# Altium integrated library Caps.IntLib: 151 symbols (part 3 of 3)
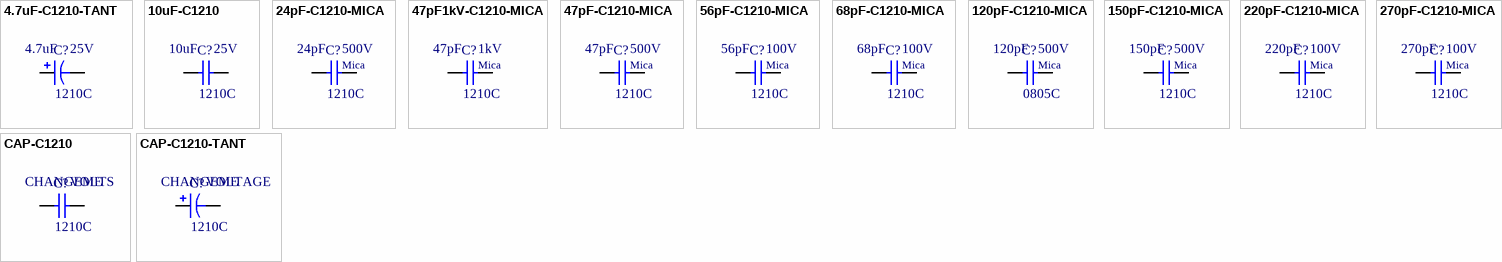
[diagram p9: symbols 4.7uF-C1210-TANT to CAP-C1210-TANT]

## 4.7uF-C1210-TANT
designator C?, comment value 4.7uF  PackageReference: 1210C  Voltage: 25V  (hidden comment: 4.7uF, 1210, 25V)
4.7uF, SMD Chip Capacitor, 1210 size, Tantalum, Polarized 25V; Published: 8-Jun-2000; LatestRevisionDate: 29-May-2009; LatestRevisionNote: IPC-7351 Footprint Added.; Publisher: Altium Limited; PackageDescription: Chip Capacitor; Supplier 1: Newark; Supplier 2: Digi-Key; Supplier 3: Mouser; Supplier Part Number 1: 60R5909; Supplier Part Number 2: 478-1690-1-ND; Supplier Part Number 3: 581-TAJB475K025R
footprint 1210-C-TANT (Molded Capacitor, 2-Leads, Body 3.50x2.85mm, IPC Low Density)
simulation model CAP (Capacitor)
signal-integrity model Cap Semi (Capacitor Signal Integrity Analisys)
3D model 1206Cap-Tant-A (PCB3D Model)
pins: 1, 2

## 10uF-C1210
designator C?, comment value 10uF  PackageReference: 1210C  Voltage: 25V  (hidden comment: 10uF, 1210, 25V)
10uF, SMD Chip Capacitor, 1210 size, Non Polarized, 25V; Published: 8-Jun-2000; LatestRevisionDate: 29-May-2009; LatestRevisionNote: IPC-7351 Footprint Added.; Publisher: Altium Limited; PackageDescription: Chip Capacitor; Supplier 1: Digi-Key; Supplier Part Number 1: 399-8224-1-ND; Supplier 2: Newark; Supplier Part Number 2: 29M4586; Supplier 3: Mouser; Supplier Part Number 3: 80-C1210C106K3R
footprint 1210-C (Chip Capacitor, Body 3.2x2.5mm, IPC High Density)
simulation model CAP (Capacitor)
signal-integrity model Cap Semi (Capacitor Signal Integrity Analisys)
3D model 1210Cap (PCB3D Model)
pins: 1, 2

## 24pF-C1210-MICA
designator C?, comment value 24pF  PackageReference: 1210C  Voltage: 500V  (hidden comment: 24pF, 1210, 500V)
24pF, SMD Chip Capacitor, 1210 size, Non Polarized, 500V, Mica; Published: 8-Jun-2000; LatestRevisionDate: 29-May-2009; LatestRevisionNote: IPC-7351 Footprint Added.; Publisher: Altium Limited; PackageDescription: Chip Capacitor; Supplier 1: Newark; Supplier 2: Mouser; Supplier 3: Digi-Key; Supplier 4: Arrow; Supplier Part Number 1: 66K2854; Supplier Part Number 2: 598-MC12ED240J-TF; Supplier Part Number 3: MC12ED240J-F-ND; Supplier Part Number 4: MC12ED240J-TF
footprint 1210-C (Chip Capacitor, Body 3.2x2.5mm, IPC High Density)
simulation model CAP (Capacitor)
signal-integrity model Cap Semi (Capacitor Signal Integrity Analisys)
3D model 1210Cap (PCB3D Model)
pins: 1, 2
text: Mica

## 47pF1kV-C1210-MICA
designator C?, comment value 47pF  PackageReference: 1210C  Voltage: 1kV  (hidden comment: 47pF, 1210, 1kV)
47pF, SMD Chip Capacitor, 1210 size, Non Polarized, 1kV; Published: 8-Jun-2000; LatestRevisionDate: 29-May-2009; LatestRevisionNote: IPC-7351 Footprint Added.; Publisher: Altium Limited; PackageDescription: Chip Capacitor; Supplier 1: Newark; Supplier 2: Mouser; Supplier 3: Digi-Key; Supplier 4: Arrow; Supplier Part Number 1: 66K3160; Supplier Part Number 2: 598-MC12FF470J-F; Supplier Part Number 3: MC12FF470J-F-ND; Supplier Part Number 4: MC12FF470J-F
footprint 1210-C (Chip Capacitor, Body 3.2x2.5mm, IPC High Density)
simulation model CAP (Capacitor)
signal-integrity model Cap Semi (Capacitor Signal Integrity Analisys)
3D model 1210Cap (PCB3D Model)
pins: 1, 2
text: Mica

## 47pF-C1210-MICA
designator C?, comment value 47pF  PackageReference: 1210C  Voltage: 500V  (hidden comment: 47pF, 1210, 500V)
47pF, SMD Chip Capacitor, 1210 size, Non Polarized, 500V, Mica; Published: 8-Jun-2000; LatestRevisionDate: 29-May-2009; LatestRevisionNote: IPC-7351 Footprint Added.; Publisher: Altium Limited; PackageDescription: Chip Capacitor; Supplier 1: Newark; Supplier 2: Digi-Key; Supplier 3: Mouser; Supplier 4: Arrow; Supplier Part Number 1: 66K3096; Supplier Part Number 2: 338-1118-ND; Supplier Part Number 3: 5982-12-500V47-F; Supplier Part Number 4: MC12FD470J-F
footprint 1210-C (Chip Capacitor, Body 3.2x2.5mm, IPC High Density)
simulation model CAP (Capacitor)
signal-integrity model Cap Semi (Capacitor Signal Integrity Analisys)
3D model 1210Cap (PCB3D Model)
pins: 1, 2
text: Mica

## 56pF-C1210-MICA
designator C?, comment value 56pF  PackageReference: 1210C  Voltage: 100V  (hidden comment: 56pF, 1210, 100V)
56pF, SMD Chip Capacitor, 1210 size, Non Polarized, 100V, Mica; Published: 8-Jun-2000; LatestRevisionDate: 29-May-2009; LatestRevisionNote: IPC-7351 Footprint Added.; Publisher: Altium Limited; PackageDescription: Chip Capacitor
footprint 1210-C (Chip Capacitor, Body 3.2x2.5mm, IPC High Density)
simulation model CAP (Capacitor)
signal-integrity model Cap Semi (Capacitor Signal Integrity Analisys)
3D model 1210Cap (PCB3D Model)
pins: 1, 2
text: Mica

## 68pF-C1210-MICA
designator C?, comment value 68pF  PackageReference: 1210C  Voltage: 100V  (hidden comment: 68pF, 1210, 100V)
68pF, SMD Chip Capacitor, 1210 size, Non Polarized, 100V, Mica; Published: 8-Jun-2000; LatestRevisionDate: 29-May-2009; LatestRevisionNote: IPC-7351 Footprint Added.; Publisher: Altium Limited; PackageDescription: Chip Capacitor; Supplier 1: Mouser; Supplier 2: Arrow; Supplier 3: Newark; Supplier 4: Digi-Key; Supplier Part Number 1: 598-MC12FA680J-F; Supplier Part Number 2: MC12FA680J-F; Supplier Part Number 3: 66K3018; Supplier Part Number 4: 338-1115-ND
footprint 1210-C (Chip Capacitor, Body 3.2x2.5mm, IPC High Density)
simulation model CAP (Capacitor)
signal-integrity model Cap Semi (Capacitor Signal Integrity Analisys)
3D model 1210Cap (PCB3D Model)
pins: 1, 2
text: Mica

## 120pF-C1210-MICA
designator C?, comment value 120pF  PackageReference: 0805C  Voltage: 500V  (hidden comment: 120pF, 1210, 500V)
120pF, SMD Chip Capacitor, 1210 size, Non Polarized, 500V, Mica; Published: 8-Jun-2000; LatestRevisionDate: 29-May-2009; LatestRevisionNote: IPC-7351 Footprint Added.; Publisher: Altium Limited; PackageDescription: Chip Capacitor; Supplier 1: Mouser; Supplier 2: Newark; Supplier 3: Digi-Key; Supplier Part Number 1: 598-MC12FD121J-TF; Supplier Part Number 2: 66K3055; Supplier Part Number 3: MC12FD121J-F-ND
footprint 1210-C (Chip Capacitor, Body 3.2x2.5mm, IPC High Density)
simulation model CAP (Capacitor)
signal-integrity model Cap Semi (Capacitor Signal Integrity Analisys)
3D model 1210Cap (PCB3D Model)
pins: 1, 2
text: Mica

## 150pF-C1210-MICA
designator C?, comment value 150pF  PackageReference: 1210C  Voltage: 500V  (hidden comment: 150pF, 1210, 500V)
150pF, SMD Chip Capacitor, 1210 size, Non Polarized, 500V, Mica; Published: 8-Jun-2000; LatestRevisionDate: 29-May-2009; LatestRevisionNote: IPC-7351 Footprint Added.; Publisher: Altium Limited; PackageDescription: Chip Capacitor; Supplier 1: Digi-Key; Supplier 2: Mouser; Supplier 3: Newark; Supplier 4: Arrow; Supplier Part Number 1: 338-1115-ND; Supplier Part Number 2: 598-MC12FA680J-F; Supplier Part Number 3: 66K3018; Supplier Part Number 4: MC12FA680J-F
footprint 1210-C (Chip Capacitor, Body 3.2x2.5mm, IPC High Density)
simulation model CAP (Capacitor)
signal-integrity model Cap Semi (Capacitor Signal Integrity Analisys)
3D model 1210Cap (PCB3D Model)
pins: 1, 2
text: Mica

## 220pF-C1210-MICA
designator C?, comment value 220pF  PackageReference: 1210C  Voltage: 100V  (hidden comment: 220pF, 1210, 100V)
220pF, SMD Chip Capacitor, 1210 size, Non Polarized, 100V, Mica; Published: 8-Jun-2000; LatestRevisionDate: 29-May-2009; LatestRevisionNote: IPC-7351 Footprint Added.; Publisher: Altium Limited; PackageDescription: Chip Capacitor; Supplier 1: Arrow; Supplier 2: Mouser; Supplier 3: Digi-Key; Supplier 4: Newark; Supplier Part Number 1: MC12FA221J-TF; Supplier Part Number 2: 598-MC12FA221J-TF; Supplier Part Number 3: 338-1112-ND; Supplier Part Number 4: 66K2936
footprint 1210-C (Chip Capacitor, Body 3.2x2.5mm, IPC High Density)
simulation model CAP (Capacitor)
signal-integrity model Cap Semi (Capacitor Signal Integrity Analisys)
3D model 1210Cap (PCB3D Model)
pins: 1, 2
text: Mica

## 270pF-C1210-MICA
designator C?, comment value 270pF  PackageReference: 1210C  Voltage: 100V  (hidden comment: 270pF, 1210, 100V)
270pF, SMD Chip Capacitor, 1210 size, Non Polarized, 100V, Mica; Published: 8-Jun-2000; LatestRevisionDate: 29-May-2009; LatestRevisionNote: IPC-7351 Footprint Added.; Publisher: Altium Limited; PackageDescription: Chip Capacitor; Supplier 1: Arrow; Supplier 2: Digi-Key; Supplier 3: Mouser; Supplier Part Number 1: MC12FA271J-TF; Supplier Part Number 2: MC12FA271J-F-ND; Supplier Part Number 3: 598-MC12FA271J-TF
footprint 1210-C (Chip Capacitor, Body 3.2x2.5mm, IPC High Density)
simulation model CAP (Capacitor)
signal-integrity model Cap Semi (Capacitor Signal Integrity Analisys)
3D model 1210Cap (PCB3D Model)
pins: 1, 2
text: Mica

## CAP-C1210
designator C?, comment value CHANGEME  PackageReference: 1210C  Voltage: VOLTS  (hidden comment: xxxF, 0805, xxxV)
Generic, SMD Chip Capacitor, 1210 size, Non Polarized, xxxV; Published: 8-Jun-2000; LatestRevisionDate: 29-May-2009; LatestRevisionNote: IPC-7351 Footprint Added.; Publisher: Altium Limited; PackageDescription: Chip Capacitor
footprint 1210-C (Chip Capacitor, Body 3.2x2.5mm, IPC High Density)
simulation model CAP (Capacitor)
signal-integrity model Cap Semi (Capacitor Signal Integrity Analisys)
3D model 1210Cap (PCB3D Model)
pins: 1, 2

## CAP-C1210-TANT
designator C?, comment value CHANGEME  PackageReference: 1210C  (hidden comment: ????, 1210, ??V)
Generic, SMD Chip Capacitor, 1210 size, Tantalum, Polarized; Published: 8-Jun-2000; LatestRevisionDate: 29-May-2009; LatestRevisionNote: IPC-7351 Footprint Added.; Publisher: Altium Limited; PackageDescription: Chip Capacitor; Voltage: VOLTAGE
footprint 1210-C-TANT (Molded Capacitor, 2-Leads, Body 3.50x2.85mm, IPC Low Density)
simulation model CAP (Capacitor)
signal-integrity model Cap Semi (Capacitor Signal Integrity Analisys)
3D model 1206Cap-Tant-A (PCB3D Model)
pins: 1, 2